# EAGLE library part 317030213 (library 317030213)
Mdbt42q Nrf52832 Based BLE Module
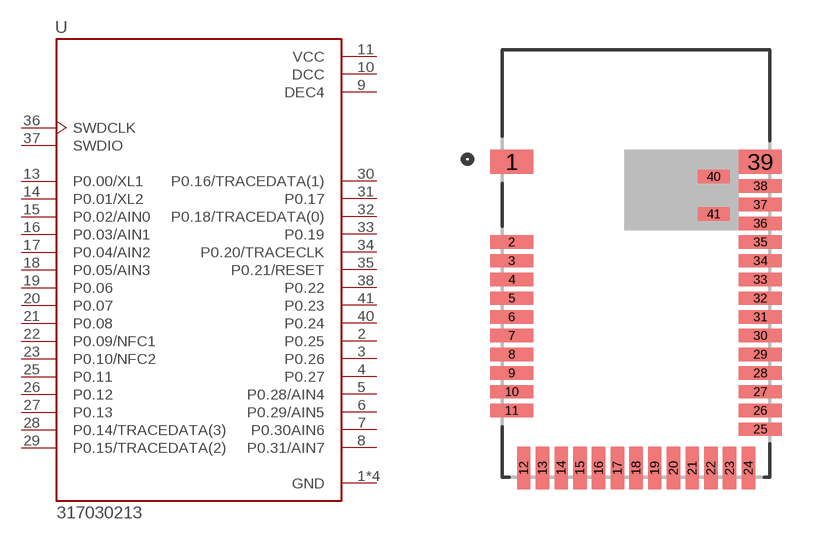
[diagram p0: symbol with the pads of XCVR_317030213; footprint XCVR_317030213]

Designator prefix U

## 317030213 (Availability: Unavailable; Description: Mdbt42q Nrf52832 Based Ble Modul; MF: Seeed Technology; MP: 317030213; Package: SMD-41 Seeed Studio; Price: None)  [XCVR_317030213]
1  GND  pwr
2  P0.25
3  P0.26
4  P0.27
5  P0.28/AIN4
6  P0.29/AIN5
7  P0.30AIN6
8  P0.31/AIN7
9  DEC4  pwr
10  DCC  pwr
11  VCC  pwr
12  GND  pwr
13  P0.00/XL1
14  P0.01/XL2
15  P0.02/AIN0
16  P0.03/AIN1
17  P0.04/AIN2
18  P0.05/AIN3
19  P0.06
20  P0.07
21  P0.08
22  P0.09/NFC1
23  P0.10/NFC2
24  GND  pwr
25  P0.11
26  P0.12
27  P0.13
28  P0.14/TRACEDATA(3)
29  P0.15/TRACEDATA(2)
30  P0.16/TRACEDATA(1)
31  P0.17
32  P0.18/TRACEDATA(0)
33  P0.19
34  P0.20/TRACECLK
35  P0.21/RESET
36  SWDCLK  in
37  SWDIO
38  P0.22
39  GND  pwr
40  P0.24
41  P0.23

## Footprint XCVR_317030213 (pad centres in mm)
smd 1.6 x 0.9: 1 -4.65,3.8; 39 4.65,3.8
smd 1.6 x 0.5: 2 -4.65,0.8; 3 -4.65,0.1; 4 -4.65,-0.6; 5 -4.65,-1.3; 6 -4.65,-2; 7 -4.65,-2.7; 8 -4.65,-3.4; 9 -4.65,-4.1; 10 -4.65,-4.8; 11 -4.65,-5.5; 25 4.65,-6.2; 26 4.65,-5.5; 27 4.65,-4.8; 28 4.65,-4.1; 29 4.65,-3.4; 30 4.65,-2.7; 31 4.65,-2; 32 4.65,-1.3; 33 4.65,-0.6; 34 4.65,0.1; 35 4.65,0.8; 36 4.65,1.5; 37 4.65,2.2; 38 4.65,2.9
smd 0.5 x 1.6: 12 -4.2,-7.65; 13 -3.5,-7.65; 14 -2.8,-7.65; 15 -2.1,-7.65; 16 -1.4,-7.65; 17 -0.7,-7.65; 18 0,-7.65; 19 0.7,-7.65; 20 1.4,-7.65; 21 2.1,-7.65; 22 2.8,-7.65; 23 3.5,-7.65; 24 4.2,-7.65
smd 1.2 x 0.5: 40 2.9,3.25; 41 2.9,1.85